# Altium footprint library Custom.PcbLib: 446 footprints (part 17 of 28)
Each footprint in its own frame and in the unit in brackets; x right, y up, seen from the top. Pads: shape width x height; smd on the part's side, far side on the other; paste and mask are expansions set on the pad; w line width, h text height; cw(c..) or ccw(c..) is an arc to the next point about the centre after c.
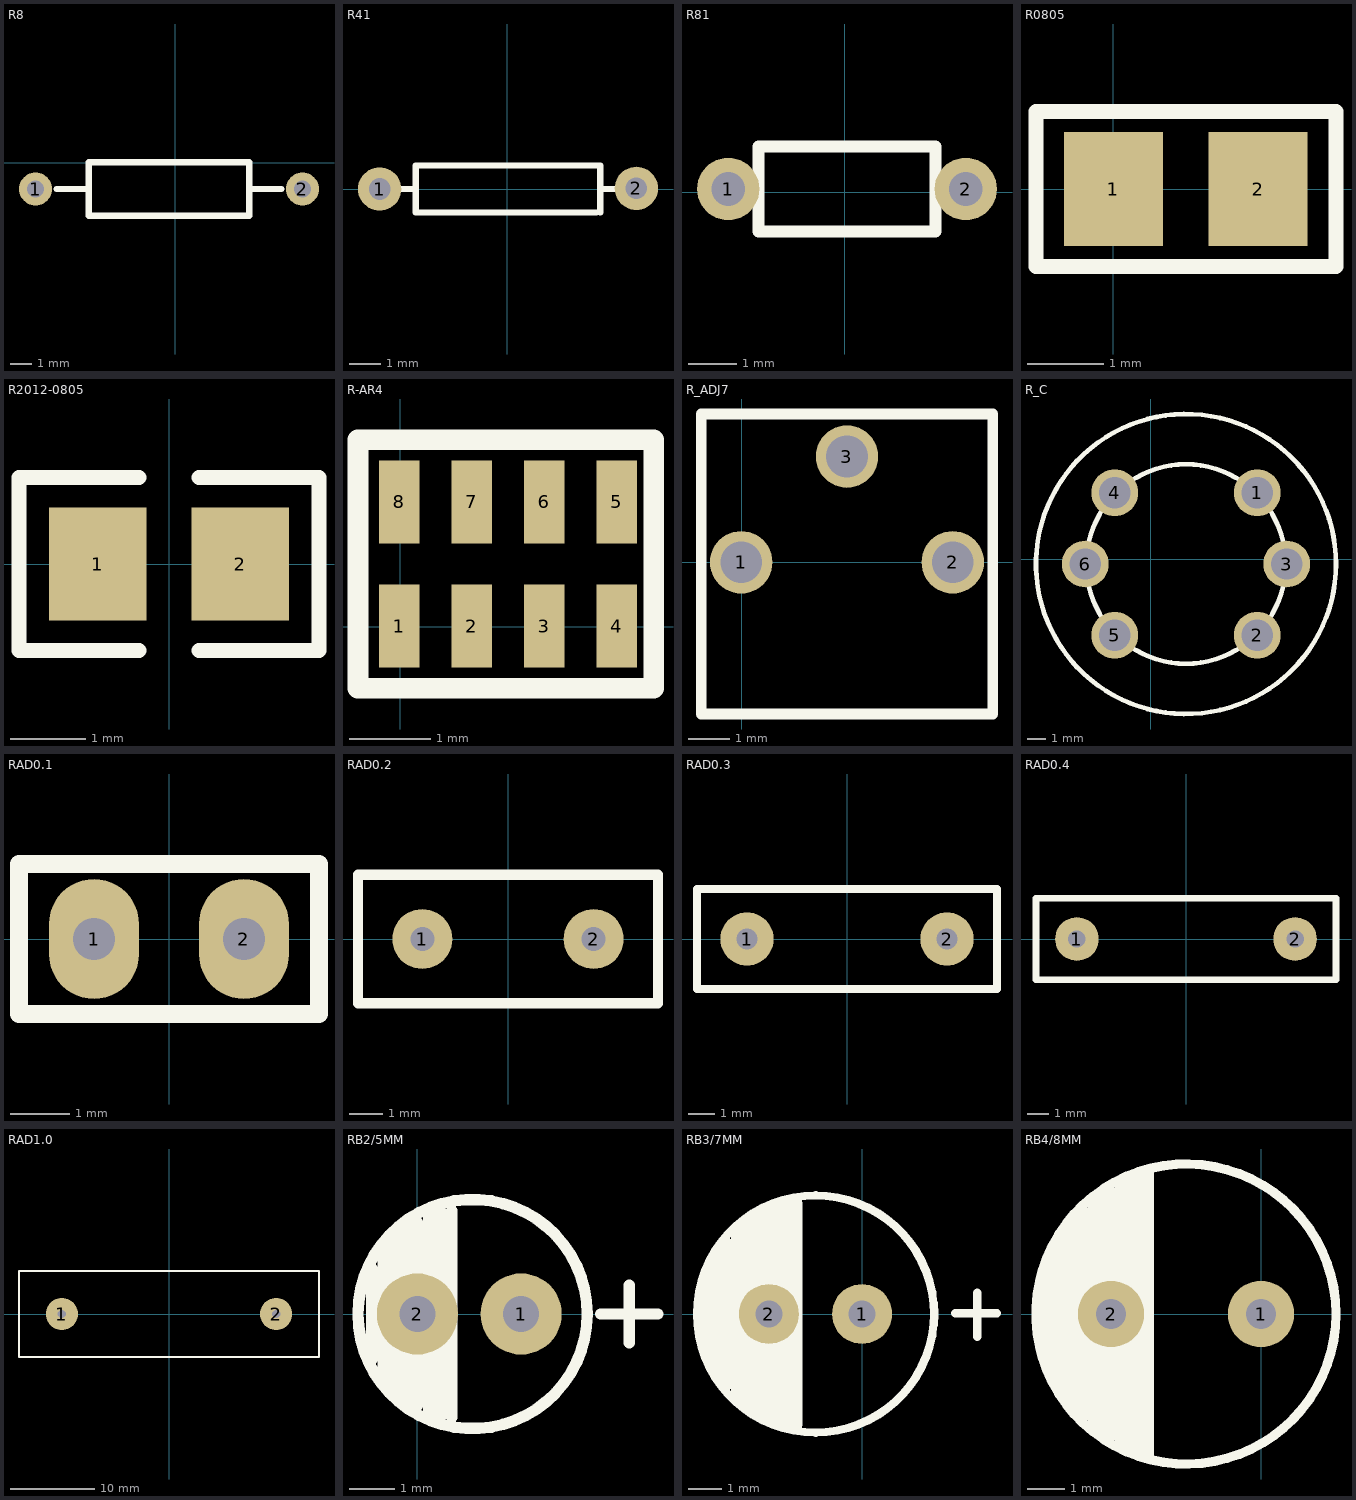
[diagram p16: the footprints below, top view; thin cyan lines are the x and y axes]

## R8 [mil]
pads (2):
  round 62 hole 32: 1(-261.57,-49.29) 2(238.43,-49.29)
Top Overlay:
  lines w12: -221.57,-49.29 -161.57,-49.29 ; 138.43,-49.29 198.43,-49.29 ; -161.57,-99.29 138.43,-99.29 138.43,0.71 -161.57,0.71 -161.57,-99.29

## R41 [mm]
pads (2):
  round 1.4 hole 0.7: 1(-4.12,0) 2(4.18,0.02)
Top Overlay:
  lines w0.203: -3.462,0 -2.954,0 ; 2.888,-0.762 -2.954,-0.762 -2.954,0.762 3.015,0.762 3.015,-0.762 ; 3.015,0 3.523,0

## R81 [mm]
pads (2):
  round 1.3 hole 0.7: 1(-2.432,0.072) 2(2.521,0.072)
Top Overlay:
  lines w0.254: -1.797,-0.817 1.886,-0.817 1.886,0.961 -1.797,0.961 -1.797,-0.817

## R0805 [mm]
height 12.93
pads (2):
  rect 1.3x1.5 smd: 1(0,0) 2(1.9,0)
Top Overlay:
  lines w0.2: -1.016,-1.016 -1.016,1.016 2.921,1.016 2.921,-1.016 -1.016,-1.016

## R2012-0805 [mm] "Thermistor; 2 Leads"
pads (2):
  rect 1.3x1.5 smd: 1(-0.95,0) 2(0.95,0)
Top Overlay:
  lines w0.2: -0.4,-1.15 -2,-1.15 -2,1.15 -0.4,1.15 ; 0.4,-1.15 2,-1.15 2,1.15 0.4,1.15

## R-AR4 [mm]
pads (8):
  rect 0.5x1.016 smd: 1(-0.012,0.011) 2(0.877,0.011) 3(1.766,0.011) 4(2.655,0.011) 5(2.655,1.535) 6(1.766,1.535) 7(0.877,1.535) 8(-0.012,1.535)
Top Overlay:
  lines w0.254: 3.061,-0.751 -0.52,-0.751 -0.52,2.297 3.112,2.297 3.112,-0.751

## R_ADJ7 [mm]
pads (3):
  round 1.5 hole 1: 1(-0.01,0.002) 2(5.07,0.002) 3(2.53,2.542)
Top Overlay:
  lines w0.254: -0.97,-3.638 6.03,-3.638 6.03,3.562 -0.97,3.562 -0.97,-3.598

## R_C [mm]
pads (6):
  round 2.54 hole 1.7: 1(5.767,3.608) 2(5.767,-4.116) 3(7.366,-0.254) 4(-1.957,3.608) 5(-1.957,-4.116) 6(-3.556,-0.254)
Top Overlay:
  circle w0.254: c1.905,-0.254 r8.129
  circle w0.254: c1.905,-0.254 r5.403

## RAD0.1 [mil]
pads (2):
  oval 60x80 hole 28: 1(-50,0) 2(50,0)
Top Overlay:
  lines w12: -100,-50 -100,50 100,50 100,-50 -100,-50

## RAD0.2 [mil]
pads (2):
  round 70 hole 28: 1(-100,0) 2(100,0)
Top Overlay:
  lines w12: -175,-75 175,-75 175,75 -175,75 -175,-75

## RAD0.3 [mil]
pads (2):
  round 80 hole 32: 1(-150,0) 2(150,0)
Top Overlay:
  lines w12: -225,-75 -225,75 225,75 225,-75 -225,-75

## RAD0.4 [mil]
pads (2):
  round 80 hole 32: 1(-200,0) 2(200,0)
Top Overlay:
  lines w12: -275,-75 275,-75 275,75 -275,75 -275,-75

## RAD1.0 [mil]
pads (2):
  round 150 hole 39: 1(-500,0) 2(500,0)
Top Overlay:
  lines w10: -700,-200 -500,-200 500,-200 700,-200 700,200 500,200 -500,200 -700,200 -700,-200

## RB2/5MM [mm]
pads (2):
  round 1.8 hole 0.8: 1(2.3,0) 2(0,0)
Top Overlay:
  circle w0.254: c1.224,0 r2.54
  lines w0.254: -1.016,-1.016 -1.016,1.016 ; -0.762,-1.524 -0.762,1.524 ; -0.508,-1.778 -0.508,1.778 ; -0.254,-2.032 -0.254,2.032 ; 0,-2.032 0,2.032 ; 0.254,-2.286 0.254,2.286 ; 0.508,-2.286 0.508,2.286 ; 0.762,-2.286 0.762,2.286 ; 4.064,0 5.334,0 ; 4.699,-0.635 4.699,0.635

## RB3/7MM [mm]
pads (2):
  round 1.8 hole 0.8: 1(0,0) 2(-2.794,0)
Top Overlay:
  circle w0.254: c-1.397,0 r3.556
  lines w0.254: -3.81,-2.54 -3.81,2.54 ; -3.556,-2.794 -3.556,2.794 ; -3.048,-3.048 -3.048,3.048 ; -2.286,-3.302 -2.286,3.302 ; 2.794,0.016 4.048,0.016 ; 3.454,-0.686 3.454,0.635
  lines w0.3: -4.826,-0.762 -4.826,0.762 ; -4.572,-1.524 -4.572,1.524 ; -4.318,-1.778 -4.318,1.778 ; -2.54,-3.302 -2.54,3.302
  lines w0.5: -4.064,-2.032 -4.064,2.032 ; -3.302,-2.794 -3.302,2.794 ; -2.794,-3.048 -2.794,3.048 ; -2.032,-3.302 -2.032,3.302

## RB4/8MM [mm]
pads (2):
  round 1.8 hole 0.8: 1(0,0) 2(-4.064,0)
Top Overlay:
  circle w0.254: c-2.032,0 r4.064
  lines w0.254: -5.08,-2.54 -5.08,2.54 ; -4.572,-3.048 -4.572,3.048
  lines w0.3: -5.842,-1.27 -5.842,1.27 ; -5.588,-1.778 -5.588,1.778 ; -5.334,-2.286 -5.334,2.286 ; -4.826,-2.794 -4.826,2.794 ; -4.318,-3.302 -4.318,3.302 ; -4.064,-3.302 -4.064,3.302 ; -3.81,-3.556 -3.81,3.556 ; -3.556,-3.556 -3.556,3.556 ; -3.302,-3.81 -3.302,3.81 ; -3.048,-3.81 -3.048,3.81